# EAGLE library part MN3101 (library ic)
MN3101: Bucket brigade clock generator for MN3000 series BBG
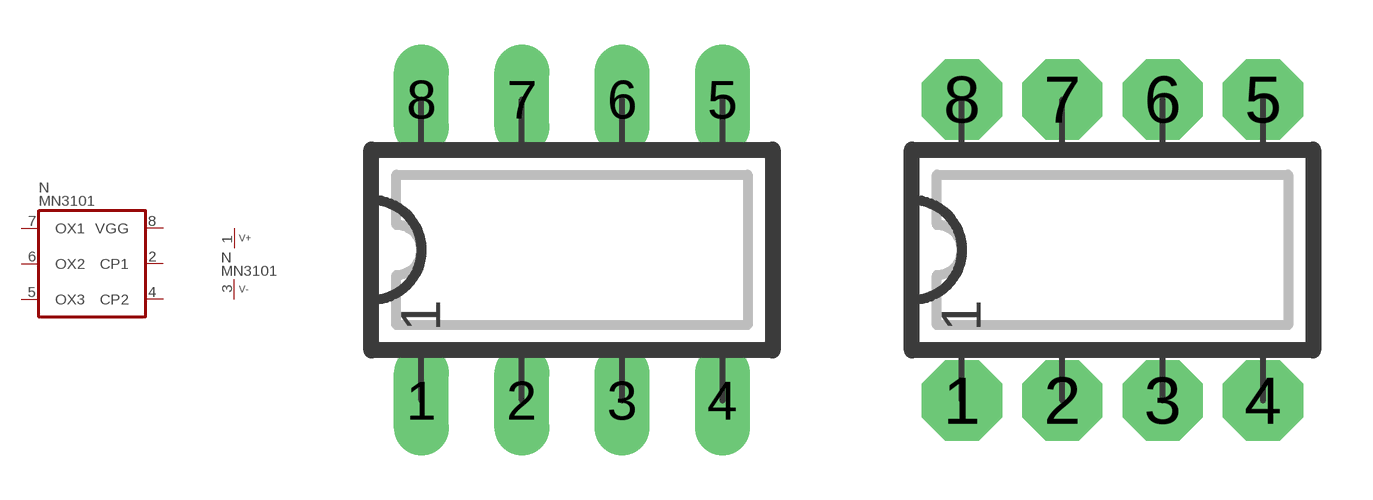
[diagram p111: symbol with the pads of DIP08L; footprints DIP08L, DIP08N]

Designator prefix N; gates  =MN3101 P=V+-

## MN3101  [DIP08L]
1  P:V+  pwr
2   :CP1
3  P:V-  pwr
4   :CP2
5   :OX3
6   :OX2
7   :OX1
8   :VGG

## MN3101L  [DIP08L]
Pads as for DIP08L

## MN3101N  [DIP08N]
Pads as for DIP08L

## MN3101R  [DIP08R]
Pads as for DIP08L

## Footprint DIP08L (pad centres in mm)
DIP-8, long pads Standard IC package, 8 pins
drill 0.813 pad 1.397 long: 1 -3.81,-3.81; 2 -1.27,-3.81; 3 1.27,-3.81; 4 3.81,-3.81; 5 3.81,3.81; 6 1.27,3.81; 7 -1.27,3.81; 8 -3.81,3.81

## Footprint DIP08N (pad centres in mm)
DIP-8 Standard IC package, 8 pins
drill 0.813 pad 2.032 octagon: 1 -3.81,-3.81; 2 -1.27,-3.81; 3 1.27,-3.81; 4 3.81,-3.81; 5 3.81,3.81; 6 1.27,3.81; 7 -1.27,3.81; 8 -3.81,3.81

## Footprint DIP08R (pad centres in mm)
DIP-8, reduced pads Standard IC package, 8 pins
drill 0.813 pad 1.397 square: 1 -3.81,-3.81; 2 -1.27,-3.81; 3 1.27,-3.81; 4 3.81,-3.81; 5 3.81,3.81; 6 1.27,3.81; 7 -1.27,3.81; 8 -3.81,3.81